# Altium integrated library OUTDOOR_2.IntLib: 26 symbols (part 1 of 2)
Pins are listed as number, name and electrical type; pins without a type are passive.

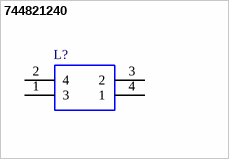
[diagram p0: symbol 744821240]

## 744821240
designator L?
Current Compensated Choke WE-CMB; Manufacturer_Name: Wurth Elektronik; Manufacturer_Part_Number: 744821240; Mouser Part Number: 710-744821240; Mouser Price/Stock: https://www.mouser.co.uk/ProductDetail/Wurth-Elektronik/744821240?qs=AXuZnX5ayYQKqLr8Ey78gQ%3D%3D; Arrow Part Number: *; Arrow Price/Stock: *; Mouser Testing Part Number: *; Mouser Testing Price/Stock: *; Datasheet Link: http://componentsearchengine.com/Datasheets/1/744821240.pdf
footprint WE-CMB_XS5
pins: 1 3, 2 4, 3 2, 4 1


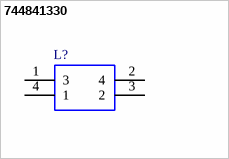
[diagram p1: symbol 744841330]

## 744841330
designator L?
Wurth 30 uH +/-30% Leaded Inductor, 3A Idc, 0.026 Rdc WE-CMB; Manufacturer_Name: Wurth Elektronik; Manufacturer_Part_Number: 744841330; Mouser Part Number: 710-744841330; Mouser Price/Stock: https://www.mouser.co.uk/ProductDetail/Wurth-Elektronik/744841330?qs=AXuZnX5ayYSe5LmBvYAQGw%3D%3D; Arrow Part Number: *; Arrow Price/Stock: *; Mouser Testing Part Number: *; Mouser Testing Price/Stock: *; Datasheet Link: *
footprint WE-CMB_NIZN_XS4
pins: 1 3, 2 4, 3 2, 4 1


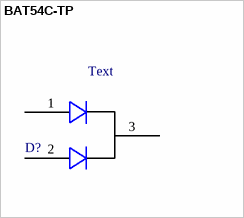
[diagram p2: symbol BAT54C-TP]

## BAT54C-TP
designator D?
Schottky Diodes & Rectifiers 30V 200mA 0.6A 200mW 2.0uA 10pF; Manufacturer_Name: Micro Commercial Components (MCC); Geometry.Height: 1.25mm; Manufacturer_Part_Number: BAT54C-TP; Mouser Part Number: 833-BAT54C-TP; Mouser Price/Stock: https://www.mouser.co.uk/ProductDetail/Micro-Commercial-Components-MCC/BAT54C-TP?qs=Oupk%2FUD005h8nOSuGI2Fmw%3D%3D; Arrow Part Number: BAT54C-TP; Arrow Price/Stock: https://www.arrow.com/en/products/bat54c-tp/micro-commercial-components?region=europe; Mouser Testing Part Number: *; Mouser Testing Price/Stock: *; Datasheet Link: https://www.mccsemi.com/pdf/Products/BAT54-BAT54S(SOT-23).pdf
footprint BAT54CTP
footprint BAT54CTP
pins: 1, 2, 3
text: Text


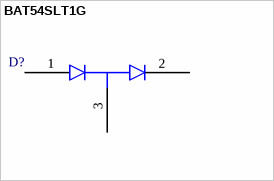
[diagram p3: symbol BAT54SLT1G]

## BAT54SLT1G
designator D?
RLBAT54SLT1G ON Semiconductor BAT54SLT1G Rectifier Diode, 0.2A, 30V, 3-Pin SOT-23; Manufacturer_Name: onsemi; Geometry.Height: 1.11mm; Manufacturer_Part_Number: BAT54SLT1G; Mouser Part Number: 863-BAT54SLT1G; Mouser Price/Stock: https://www.mouser.co.uk/ProductDetail/onsemi/BAT54SLT1G?qs=vLkC5FC1VN9oCh8qaBIZiQ%3D%3D; Arrow Part Number: BAT54SLT1G; Arrow Price/Stock: https://www.arrow.com/en/products/bat54slt1g/on-semiconductor?region=nac; Mouser Testing Part Number: *; Mouser Testing Price/Stock: *; Datasheet Link: http://www.onsemi.com/pub/Collateral/BAT54SLT1-D.PDF
footprint SOT96P237X111-3N
footprint SOT96P237X111-3N
pins: 1, 2, 3


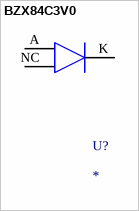
[diagram p4: symbol BZX84C3V0]

## BZX84C3V0
designator U?
350mW SURFACE MOUNT ZENER DIODE; MP: BZX84C3V0; Package: None; Price: None; Value: *; Availability: Unavailable
footprint SOT91P240X110-3N
footprint SOT91P240X110-3N
pins: A 1, K 3, NC 2


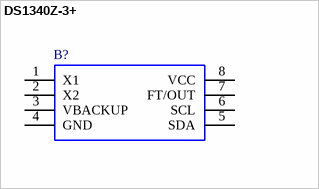
[diagram p5: symbol DS1340Z-3+]

## DS1340Z-3+
designator B?
Maxim DS1340Z-3+ Real Time Clock  Calendar 8-Pin SOIC; Manufacturer_Name: Maxim Integrated; Geometry.Height: 1.75mm; Manufacturer_Part_Number: DS1340Z-3+; Mouser Part Number: 700-DS1340Z-3; Mouser Price/Stock: https://www.mouser.co.uk/ProductDetail/Maxim-Integrated/DS1340Z-3%2b?qs=1eQvB6Dk1vgZlP%2FkqXh3xQ%3D%3D; Arrow Part Number: *; Arrow Price/Stock: *; Mouser Testing Part Number: *; Mouser Testing Price/Stock: *; Datasheet Link: https://datasheets.maximintegrated.com/en/ds/DS1340-DS1340C.pdf
footprint SOIC127P600X175-8N
pins: 1 X1, 2 X2, 3 VBACKUP, 4 GND, 5 SDA, 6 SCL, 7 FT/OUT, 8 VCC


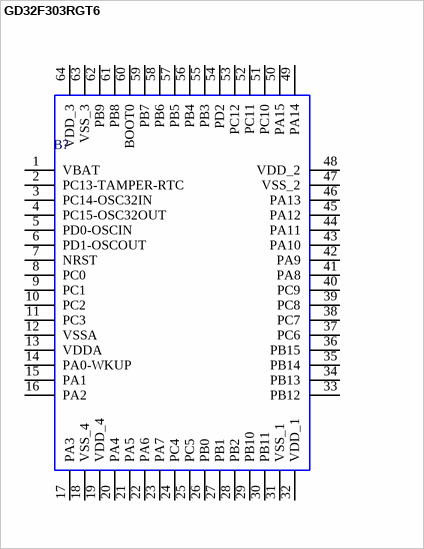
[diagram p6: symbol GD32F303RGT6]

## GD32F303RGT6
designator B?
ARM Cortex-M4 32-bit MCU; Manufacturer_Name: GigaDevice Semiconductor (HK) Limited; Geometry.Height: 1.6mm; Manufacturer_Part_Number: GD32F303RGT6; Mouser Part Number: N/A; Mouser Price/Stock: https://www.mouser.co.uk/ProductDetail/GigaDevice/GD32F303RGT6?qs=A6eO%252BMLsxmRbzSGlFw6W%252BQ%3D%3D; Arrow Part Number: *; Arrow Price/Stock: *; Mouser Testing Part Number: *; Mouser Testing Price/Stock: *; Datasheet Link: https://www.gigadevice.com/datasheet/gd32f303xxxx-datasheet/
footprint QFP50P1200X1200X160-64N
footprint QFP50P1200X1200X160-64N
footprint QFP50P1200X1200X160-64N
pins: 1 VBAT, 2 PC13-TAMPER-RTC, 3 PC14-OSC32IN, 4 PC15-OSC32OUT, 5 PD0-OSCIN, 6 PD1-OSCOUT, 7 NRST, 8 PC0, 9 PC1, 10 PC2, 11 PC3, 12 VSSA, 13 VDDA, 14 PA0-WKUP, 15 PA1, 16 PA2, 17 PA3, 18 VSS_4, 19 VDD_4, 20 PA4, 21 PA5, 22 PA6, 23 PA7, 24 PC4, 25 PC5, 26 PB0, 27 PB1, 28 PB2, 29 PB10, 30 PB11, 31 VSS_1, 32 VDD_1, 33 PB12, 34 PB13, 35 PB14, 36 PB15, 37 PC6, 38 PC7, 39 PC8, 40 PC9, 41 PA8, 42 PA9, 43 PA10, 44 PA11, 45 PA12, 46 PA13, 47 VSS_2, 48 VDD_2, 49 PA14, 50 PA15, 51 PC10, 52 PC11, 53 PC12, 54 PD2, 55 PB3, 56 PB4, 57 PB5, 58 PB6, 59 PB7, 60 BOOT0, 61 PB8, 62 PB9, 63 VSS_3, 64 VDD_3


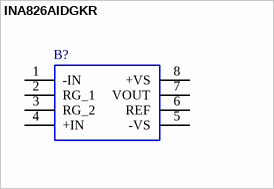
[diagram p7: symbol INA826AIDGKR]

## INA826AIDGKR
designator B?
Precision, 200-uA Supply Current, 36-V Supply Instrumentation Amplifier; Manufacturer_Name: Texas Instruments; Geometry.Height: 1.1mm; Manufacturer_Part_Number: INA826AIDGKR; Mouser Part Number: 595-INA826AIDGKR; Mouser Price/Stock: https://www.mouser.co.uk/ProductDetail/Texas-Instruments/INA826AIDGKR?qs=RqytGdBYyUFRygOfwpYOmQ%3D%3D; Arrow Part Number: INA826AIDGKR; Arrow Price/Stock: https://www.arrow.com/en/products/ina826aidgkr/texas-instruments?region=nac; Mouser Testing Part Number: *; Mouser Testing Price/Stock: *; Datasheet Link: http://www.ti.com/lit/ds/symlink/ina826.pdf
footprint SOP65P490X110-8N
pins: 1 -IN, 2 RG_1, 3 RG_2, 4 +IN, 5 -VS, 6 REF, 7 VOUT, 8 +VS


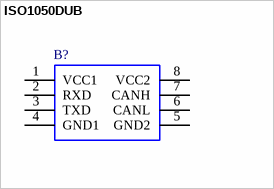
[diagram p8: symbol ISO1050DUB]

## ISO1050DUB
designator B?
CAN Transceiver 1Mbit/s ISO 11898-2 Silent-Mode 8pins SOIC; Manufacturer_Name: Texas Instruments; Geometry.Height: 4.85mm; Manufacturer_Part_Number: ISO1050DUB; Mouser Part Number: 595-ISO1050DUB; Mouser Price/Stock: https://www.mouser.co.uk/ProductDetail/Texas-Instruments/ISO1050DUB?qs=IK5e5L0zOXiBKtns%252BwxBWw%3D%3D; Arrow Part Number: ISO1050DUB; Arrow Price/Stock: https://www.arrow.com/en/products/iso1050dub/texas-instruments?region=nac; Mouser Testing Part Number: *; Mouser Testing Price/Stock: *; Datasheet Link: https://datasheet.datasheetarchive.com/originals/distributors/Datasheets-SFU2/DSASFU100032000.pdf
footprint SOP254P1040X485-8N
footprint SOP254P1040X485-8N
footprint SOP254P1040X485-8N
pins: 1 VCC1, 2 RXD, 3 TXD, 4 GND1, 5 GND2, 6 CANL, 7 CANH, 8 VCC2


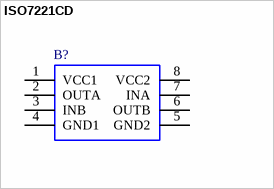
[diagram p9: symbol ISO7221CD]

## ISO7221CD
designator B?
Texas Instruments ISO7221CD Digital Isolator SOIC8; Geometry.Height: 1.75mm; Manufacturer_Name: Texas Instruments; Manufacturer_Part_Number: ISO7221CD; Mouser Part Number: 595-ISO7221CD; Mouser Price/Stock: https://www.mouser.co.uk/ProductDetail/Texas-Instruments/ISO7221CD?qs=tP77tliwutCCmPUysEBMTw%3D%3D; Arrow Part Number: ISO7221CD; Arrow Price/Stock: https://www.arrow.com/en/products/iso7221cd/texas-instruments?region=nac; Mouser Testing Part Number: *; Mouser Testing Price/Stock: *; Datasheet Link: http://www.ti.com/lit/ds/symlink/iso7220c.pdf
footprint SOIC127P600X175-8N
pins: 1 VCC1, 2 OUTA, 3 INB, 4 GND1, 5 GND2, 6 OUTB, 7 INA, 8 VCC2


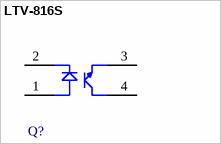
[diagram p10: symbol LTV-816S]

## LTV-816S
designator Q?
Lite-On LTV-816S DC Input Transistor Output Optocoupler, Surface Mount, 4-Pin PDIP; Geometry.Height: 4mm; Manufacturer_Name: Lite-On; Manufacturer_Part_Number: LTV-816S; Mouser Part Number: 859-LTV-816S; Mouser Price/Stock: https://www.mouser.co.uk/ProductDetail/Lite-On/LTV-816S?qs=XpF7qU%252BvLkW8kf%252BAJLUsYA%3D%3D; Arrow Part Number: LTV-816S; Arrow Price/Stock: https://www.arrow.com/en/products/ltv-816s/lite-on-technology?region=nac; Mouser Testing Part Number: *; Mouser Testing Price/Stock: *; Datasheet Link: https://datasheet.datasheetarchive.com/originals/distributors/Datasheets-305/79781.pdf
footprint SOP254P1016X400-4N
pins: 1 A, 2 K, 3 EMITTER, 4 COLLECTOR


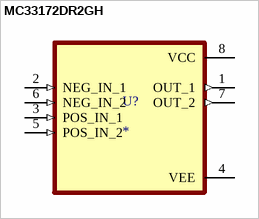
[diagram p11: symbol MC33172DR2GH]

## MC33172DR2GH
designator U?
General Purpose Amplifier 2 Circuit - 8-SOIC; MF: ON Semiconductor; MP: MC33172DR2GH; Purchase-URL: https://pricing.snapeda.com/search/part/MC33172DR2GH/?ref=eda; Value: *; SnapEDA_Link: https://www.snapeda.com/parts/MC33172DR2GH/Onsemi/view-part/?ref=snap; Package: None; Check_prices: https://www.snapeda.com/parts/MC33172DR2GH/Onsemi/view-part/?ref=eda; Availability: In Stock; Price: None
footprint SOIC127P600X175-8N
pins: 1 OUT_1 (out), 2 NEG_IN_1 (in), 3 POS_IN_1 (in), 4 VEE (power), 5 POS_IN_2 (in), 6 NEG_IN_2 (in), 7 OUT_2 (out), 8 VCC (power)


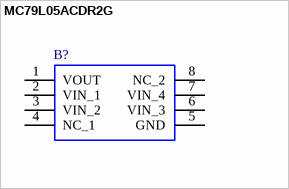
[diagram p12: symbol MC79L05ACDR2G]

## MC79L05ACDR2G
designator B?
Manufacturer_Name: onsemi; Geometry.Height: 1.75mm; Manufacturer_Part_Number: MC79L05ACDR2G; Mouser Part Number: 863-MC79L05ACDR2G; Mouser Price/Stock: https://www.mouser.co.uk/ProductDetail/onsemi/MC79L05ACDR2G?qs=%252B9%2Fcbd0IE0RF56w%2FNOqBRg%3D%3D; Arrow Part Number: MC79L05ACDR2G; Arrow Price/Stock: https://www.arrow.com/en/products/mc79l05acdr2g/on-semiconductor; Mouser Testing Part Number: *; Mouser Testing Price/Stock: *; Description: *; Datasheet Link: http://www.onsemi.com/pub/Collateral/MC79L00-D.PDF
footprint SOIC127P600X175-8N
pins: 1 VOUT, 2 VIN_1, 3 VIN_2, 4 NC_1, 5 GND, 6 VIN_3, 7 VIN_4, 8 NC_2


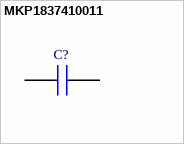
[diagram p13: symbol MKP1837410011]

## MKP1837410011
designator C?
Vishay MKP 1837 100nF Polypropylene Film Capacitor 100 V dc, 63 V ac +/-1%, Through Hole; Geometry.Height: 11mm; Manufacturer_Name: Vishay; Manufacturer_Part_Number: MKP1837410011; Mouser Part Number: 75-MKP1837410011; Mouser Price/Stock: https://www.mouser.co.uk/ProductDetail/Vishay-Roederstein/MKP1837410011?qs=fgoA9hqHNFdbvoDb3kBZqA%3D%3D; Arrow Part Number: MKP1837410011; Arrow Price/Stock: https://www.arrow.com/en/products/mkp1837410011/vishay; Mouser Testing Part Number: *; Mouser Testing Price/Stock: *; Datasheet Link: https://www.vishay.com/docs/26017/mkp1837.pdf
footprint MKP1837410011
pins: 1, 2


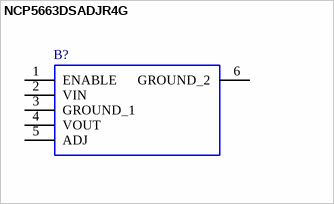
[diagram p14: symbol NCP5663DSADJR4G]

## NCP5663DSADJR4G
designator B?
Linear Voltage Regulator, LDO, Fast Response, 3.0 A, with Enable Vout: Adj; Manufacturer_Name: onsemi; Geometry.Height: 4.826mm; Manufacturer_Part_Number: NCP5663DSADJR4G; Mouser Part Number: 863-NCP5663DSADJR4G; Mouser Price/Stock: https://www.mouser.co.uk/ProductDetail/onsemi/NCP5663DSADJR4G?qs=%2FugrpAKHX8rUyz7Fi%2Fgntg%3D%3D; Arrow Part Number: NCP5663DSADJR4G; Arrow Price/Stock: https://www.arrow.com/en/products/ncp5663dsadjr4g/on-semiconductor?region=nac; Mouser Testing Part Number: *; Mouser Testing Price/Stock: *; Datasheet Link: http://www.onsemi.com/pub/Collateral/NCP5663-D.PDF
footprint NCP5663DSADJR4G
pins: 1 ENABLE, 2 VIN, 3 GROUND_1, 4 VOUT, 5 ADJ, 6 GROUND_2


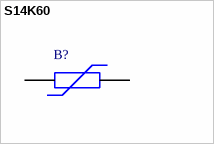
[diagram p15: symbol S14K60]

## S14K60
designator B?
Varistors 60 VAC  17J 165V-CL   4500A-PK; Manufacturer_Name: TDK; Geometry.Height: 18.5mm; Manufacturer_Part_Number: S14K60; Mouser Part Number: *; Mouser Price/Stock: *; Arrow Part Number: *; Arrow Price/Stock: *; Mouser Testing Part Number: *; Mouser Testing Price/Stock: *; Datasheet Link: https://www.tdk-electronics.tdk.com/inf/70/db/var/SIOV_Leaded_StandarD.pdf?ref_disty=digikey
footprint S14K60
footprint S14K60
pins: 1, 2


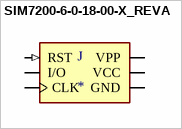
[diagram p16: symbol SIM7200-6-0-18-00-X_REVA]

## SIM7200-6-0-18-00-X_REVA
designator J
6 Position Card Connector Micro SIM Surface Mount, Right Angle Gold; MF: Global Connector Technology; MP: SIM7200-6-0-18-00-A; SnapEDA_Link: https://www.snapeda.com/parts/SIM7200-6-0-18-00-A/Global%20Connector%20Technology/view-part/812977/?ref=snap; Package: None; Price: None; Value: *; Availability: Unavailable
footprint GCT_SIM7200-6-0-18-00-X_REVA
footprint GCT_SIM7200-6-0-18-00-X_REVA
pins: C1 VCC (power), C2 RST (in), C3 CLK (io), C5 GND (power), C6 VPP (power), C7 I/O (io)


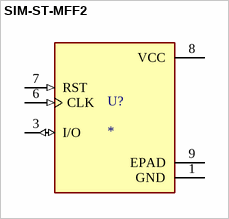
[diagram p17: symbol SIM-ST-MFF2]

## SIM-ST-MFF2
designator U?
GLOBAL IOT EMBEDDED SIM CHIP; MP: SIM-ST-MFF2; Value: *; Package: None; Availability: Unavailable; Price: None
footprint PSON127P500X600X82-9N
footprint PSON127P500X600X82-9N
pins: 1 GND (power), 3 I/O (io), 6 CLK (in), 7 RST (in), 8 VCC (power), 9 EPAD


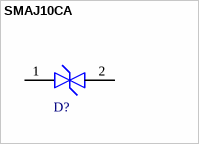
[diagram p18: symbol SMAJ10CA]

## SMAJ10CA
designator D?
ESD Suppressors / TVS Diodes 400W 10V 5% Bi-Directional ESD Suppressors / TVS Diodes 400W 60V 5% Bi-Directional; Manufacturer_Name: LITTELFUSE; Geometry.Height: 2.29mm; Manufacturer_Part_Number: SMAJ10CA; Mouser Part Number: 576-SMAJ10CA; Mouser Price/Stock: https://www.mouser.co.uk/ProductDetail/Littelfuse/SMAJ10CA?qs=HR2RnyOI4E6vSKXNVUMgrg%3D%3D; Arrow Part Number: SMAJ10CA; Arrow Price/Stock: https://www.arrow.com/en/products/smaj10ca/littelfuse; Mouser Testing Part Number: *; Mouser Testing Price/Stock: *; Datasheet Link: https://docs.rs-online.com/73d0/0900766b81627558.pdf
footprint DIONM5026X229N
pins: 1, 2


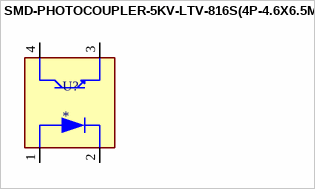
[diagram p19: symbol SMD-PHOTOCOUPLER-5KV-LTV-816S(4P-4.6X6.5MM)]

## SMD-PHOTOCOUPLER-5KV-LTV-816S(4P-4.6X6.5MM)
designator U?
Optoisolator Transistor Output 5000Vrms 1 Channel 4-SMD; MP: LTV-816S; MF: Lite-On Inc.; Availability: Good; SnapEDA_Link: https://www.snapeda.com/parts/LTV-816S/Lite-On%20Inc./view-part/106189/?ref=snap; Value: *; Price: None; Package: SMD-4 Lite-On Inc.; Check_prices: https://www.snapeda.com/parts/LTV-816S/Lite-On%20Inc./view-part/106189/?ref=eda; Purchase-URL: https://pricing.snapeda.com/search/part/LTV-816S/?ref=eda
footprint SMD4-2.54-4.6X6.5MM
footprint SMD4-2.54-4.6X6.5MM
pins: 1 ANODE (io), 2 CATHODE (io), 3 EMITER (io), 4 COLLECTOR (io)


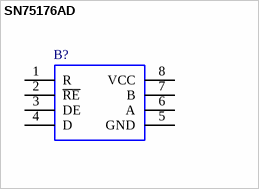
[diagram p20: symbol SN75176AD]

## SN75176AD
designator B?
SN75176AD, Line Transceiver, EIA/TIA-422-B, RS-485, RS-422, V.11 10Mbit/s Differential, 5V, 8-Pin SOIC; Manufacturer_Name: Texas Instruments; Geometry.Height: 1.75mm; Manufacturer_Part_Number: SN75176AD; Mouser Part Number: 595-SN75176AD; Mouser Price/Stock: https://www.mouser.co.uk/ProductDetail/Texas-Instruments/SN75176AD?qs=FetendrIl6upbSVFRObzhQ%3D%3D; Arrow Part Number: SN75176AD; Arrow Price/Stock: https://www.arrow.com/en/products/sn75176ad/texas-instruments?region=nac; Mouser Testing Part Number: *; Mouser Testing Price/Stock: *; Datasheet Link: http://www.ti.com/lit/ds/symlink/sn75176a.pdf
footprint SOIC127P600X175-8N
pins: 1 R, 2 ~{RE}, 3 DE, 4 D, 5 GND, 6 A, 7 B, 8 VCC


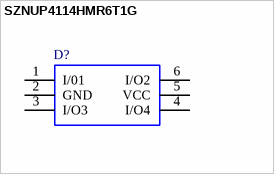
[diagram p21: symbol SZNUP4114HMR6T1G]

## SZNUP4114HMR6T1G
designator D?
ON Semiconductor SZNUP4114HMR6T1G Quad Uni-Directional TVS Diode Array, 6-Pin TSOP; Manufacturer_Name: onsemi; Geometry.Height: 1.1mm; Manufacturer_Part_Number: SZNUP4114HMR6T1G; Mouser Part Number: 863-SZNUP4114HMR6T1G; Mouser Price/Stock: https://www.mouser.co.uk/ProductDetail/onsemi/SZNUP4114HMR6T1G?qs=3PKVEWFFm28CWuvYGXlVhA%3D%3D; Arrow Part Number: SZNUP4114HMR6T1G; Arrow Price/Stock: https://www.arrow.com/en/products/sznup4114hmr6t1g/on-semiconductor; Mouser Testing Part Number: *; Mouser Testing Price/Stock: *; Datasheet Link: https://componentsearchengine.com/Datasheets/2/SZNUP4114HMR6T1G.pdf
footprint SOP95P275X110-6N
pins: 1 I/01, 2 GND, 3 I/O3, 4 I/O4, 5 VCC, 6 I/O2


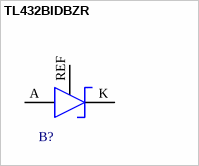
[diagram p22: symbol TL432BIDBZR]

## TL432BIDBZR
designator B?
Adjustable Precision Shunt Regulator; Manufacturer_Name: Texas Instruments; Geometry.Height: 1.12mm; Manufacturer_Part_Number: TL432BIDBZR; Mouser Part Number: 595-TL432BIDBZR; Mouser Price/Stock: https://www.mouser.com/Search/Refine.aspx?Keyword=595-TL432BIDBZR; Arrow Part Number: TL432BIDBZR; Arrow Price/Stock: https://www.arrow.com/en/products/tl432bidbzr/texas-instruments; Mouser Testing Part Number: *; Mouser Testing Price/Stock: *; Datasheet Link: https://datasheet.datasheetarchive.com/originals/distributors/Datasheets-SFU2/DSASFU100034171.pdf
footprint SOT95P237X112-3N
footprint SOT95P237X112-3N
pins: A 3, K, REF
